# Altium schematic symbol library SCH - POWER - SWITCHMODE - TI  TPS61202_DRC_10.SchLib: 1 symbol
Pins are listed as number, name and electrical type; pins without a type are passive.

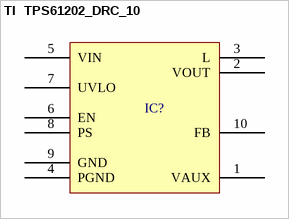
[diagram p0: symbol TI  TPS61202_DRC_10]

## TI  TPS61202_DRC_10
designator IC?  (value not drawn)
pins: 1 VAUX, 2 VOUT, 3 L, 4 PGND, 5 VIN, 6 EN, 7 UVLO, 8 PS, 9 GND, 10 FB